# Altium schematic symbol library RN60D1682FB14.SchLib: 2 symbols
Pins are listed as number, name and electrical type; pins without a type are passive.

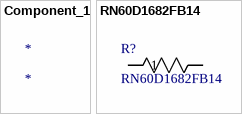
[diagram p0: symbols Component_1 to RN60D1682FB14]

## Component_1
designator *

## RN60D1682FB14
designator R?
No Description Available; Mfr_Name: Vishay; Copyright: Copyright (C) 2022 Ultra Librarian. All rights reserved.; Manufacturer_Part_Number: RN60D1682FB14; Digi-Key_Part_Number_1: RN60D1682FB14-ND; RefDes: RefDes; Type: DEV
footprint RN60_VIS
pins: 1, 2